# Altium integrated library CX2016DB48000C0FPLC1.IntLib: 1 symbol
Pins are listed as number, name and electrical type; pins without a type are passive.

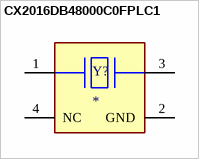
[diagram p0: symbol CX2016DB48000C0FPLC1]

## CX2016DB48000C0FPLC1
designator Y?
48 MHz Â±10ppm Crystal 7pF 50 Ohms 4-SMD, No Lead; MF: Kyocera International; MP: CX2016DB48000C0FPLC1; SnapEDA_Link: https://www.snapeda.com/parts/CX2016DB48000C0FPLC1/Kyocera/view-part/?ref=snap; Package: SMD-4 AVX Corp/Kyocera; Value: *; Check_prices: https://www.snapeda.com/parts/CX2016DB48000C0FPLC1/Kyocera/view-part/?ref=eda
footprint OSC_CX2016DB48000C0FPLC1
pins: 1, 2 GND (power), 3, 4 NC